# Altium integrated library SPM10065VT-330M-D.IntLib: 1 symbol
Pins are listed as number, name and electrical type; pins without a type are passive.

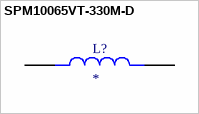
[diagram p0: symbol SPM10065VT-330M-D]

## SPM10065VT-330M-D
designator L?
MP: SPM10065VT330MD; MF: TDK; Purchase-URL: https://pricing.snapeda.com/search/part/SPM10065VT330MD/?ref=eda; Package: None; Check_prices: https://www.snapeda.com/parts/SPM10065VT330MD/TDK/view-part/?ref=eda; Price: None; SnapEDA_Link: https://www.snapeda.com/parts/SPM10065VT330MD/TDK/view-part/?ref=snap; Availability: In Stock; Value: *
footprint IND_SPM10065VT-330M-D
pins: 1, 2